# Altium schematic symbol library Schlib1.SchLib: 25 symbols
Pins are listed as number, name and electrical type; pins without a type are passive.

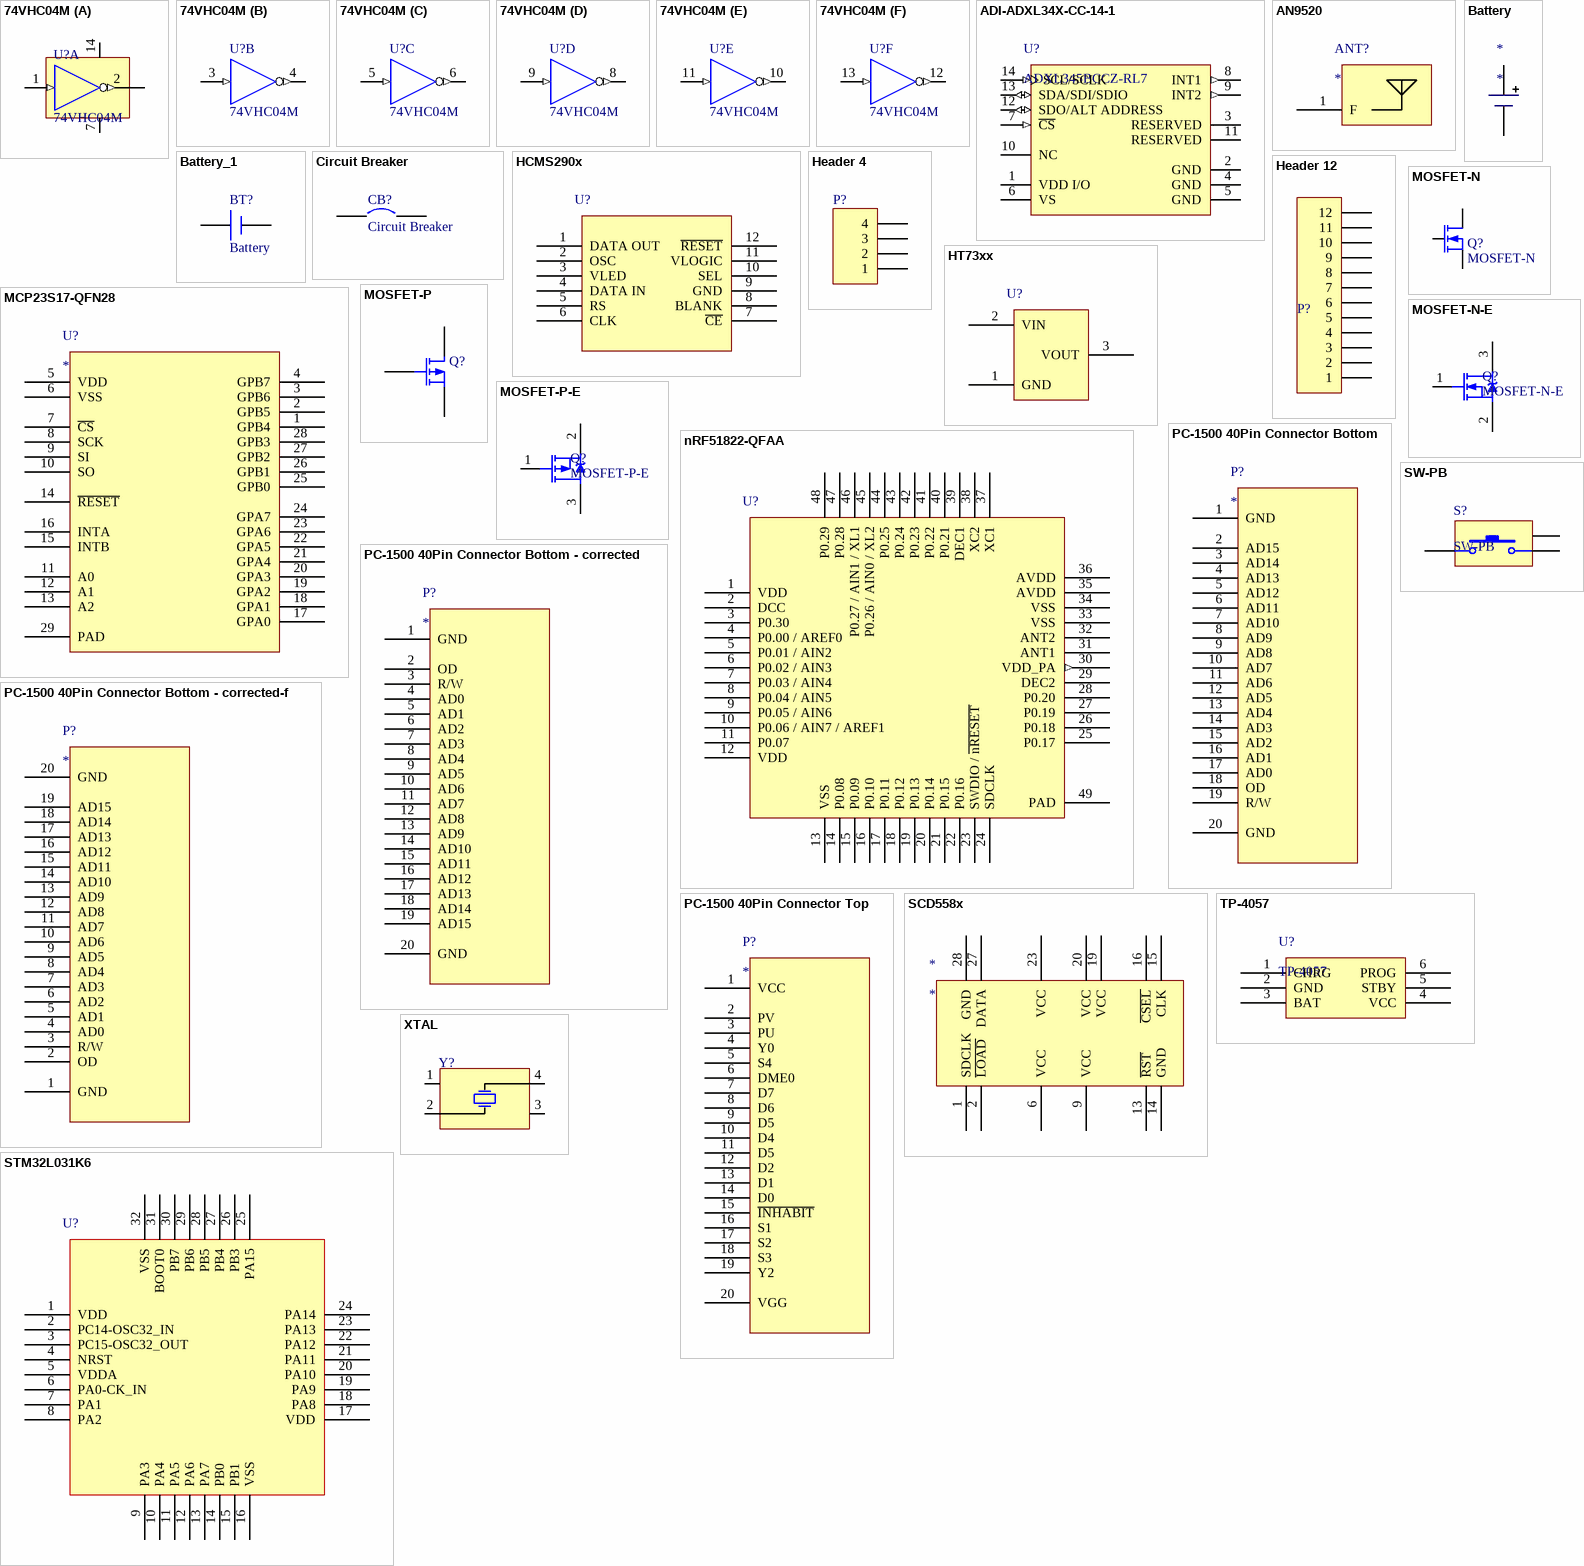
[diagram p0: symbols 74VHC04M to XTAL]

## 74VHC04M
designator U?
非门; IC_Technology: S; Published: 17-Jul-2002; LatestRevisionDate: 13-Apr-2006; LatestRevisionNote: IPC-7351 Footprint Added.; DatasheetVersion: Mar-1998; PackageVersion: 2000; PackageReference: M14A; Publisher: Altium Limited; PackageDescription: 14-Pin Small Outline Integrated Circuit 1.27 mm Pitch; Code_IPC: SOIC127P600-14; ComponentLink1Description: Manufacturer Link; ComponentLink1URL: http://www.fairchildsemi.com/
footprint SOP-14N (SOP, 14-Leads,)
part A pins: 1 A (in), 2 Y (out), 7 GND (power), 14 VCC (power)
part B pins: 3 A (in), 4 Y (out)
part C pins: 5 A (in), 6 Y (out)
part D pins: 8 Y (out), 9 A (in)
part E pins: 10 Y (out), 11 A (in)
part F pins: 12 Y (out), 13 A (in)

## ADI-ADXL34X-CC-14-1
designator U?, comment ADXL345BCCZ-RL7
3-Axis, +/-2 g / +/-4 g / +/-8 g / +/-16 g Digital Accelerometer with Digital Output, 1.6 KHz BW, Industrial, 14-pin LGA, Reel
footprint LGA80P300X500-14N (LGA, 14-Leads, Body 5,0x3,0mm (max), Pitch 1,01mm, Pitch1 0,80mm, IPC Medium Density)
pins: 1 VDD I/O (power) "Digital Interface Supply Voltage.", 2 GND (power) "This pin must be connected to ground.", 3 RESERVED "Reserved. This pin must be connected to VS or left open.", 4 GND (power) "This pin must be connected to ground.", 5 GND (power) "This pin must be connected to ground.", 6 VS (power) "Supply Voltage.", 7 ~{CS} (in) "Chip Select.", 8 INT1 (out) "Interrupt 1 Output.", 9 INT2 (out) "Interrupt 2 Output.", 10 NC "Not Internally Connected.", 11 RESERVED "Reserved. This pin must be connected to ground or left open.", 12 SDO/ALT ADDRESS (io) "Serial Data Output (SPI 4-Wire)/Alternate I2C Address Select (I2C).", 13 SDA/SDI/SDIO (io) "Serial Data (I2C)/Serial Data Input (SPI 4-Wire)/Serial Data Input and Output (SPI 3-Wire).", 14 SCL/SCLK (in) "Serial Communications Clock. SCL is the clock for I2C, and SCLK is the clock for SPI."

## AN9520
designator ANT?
AN9520 Multilayer Chip Antenna
footprint AN9520
pins: 1 F "Thermal pad"

## Battery
designator *
footprint HDR2X1_A (Connector; Header; 2 Position)
pins: 1 POS, 2 NEG

## Battery_1
designator BT?, comment Battery
备份电池; Published: 24-Mar-1999; LatestRevisionDate: 17-Jul-2002; LatestRevisionNote: Re-released for DXP Platform.; PackageReference: BAT-2; Publisher: Altium Limited
footprint CR1220 (钮扣电池)
footprint HDR2X1_A (Connector; Header; 2 Position)
pins: 1 +, 2 -

## Circuit Breaker
designator CB?
Published: 24-Mar-1999; LatestRevisionDate: 17-Jul-2002; LatestRevisionNote: Re-released for DXP Platform.; PackageReference: SPST-2; Publisher: Altium Limited; PackageDescription: Switch; 2 Leads
footprint SB-0805 (Configurable Solder Bridge)
pins: 1, 2

## HCMS290x
designator U?
HCMS LED display module
footprint HCMS-290x
pins: 1 DATA OUT, 2 OSC, 3 VLED, 4 DATA IN, 5 RS, 6 CLK, 7 ~{CE}, 8 BLANK, 9 GND, 10 SEL, 11 VLOGIC, 12 ~{RESET}

## Header 4
designator P?  (value not drawn)
接插件; LatestRevisionDate: 17-Jul-2002; LatestRevisionNote: Re-released for DXP Platform.; Publisher: Altium Limited
footprint HDR4X1_A (Connector; Header; 4 Position)
footprint HDR4X1_B1 (Connector; Header; 4 Position)
footprint HDR4X1_B2 (Connector; Header; 4 Position)
footprint HDR4X1_F
footprint HDR4X1_C (3.81MM接插件)
footprint HDR4X1_1.27mm
pins: 1, 2, 3, 4

## Header 12
designator P?  (value not drawn)
接插件; LatestRevisionDate: 17-Jul-2002; LatestRevisionNote: Re-released for DXP Platform.; Publisher: Altium Limited
footprint HDR12X1_1.27mm
pins: 1, 2, 3, 4, 5, 6, 7, 8, 9, 10, 11, 12

## HT73xx
designator U?  (value not drawn)
Output Voltage: *
pins: 1 GND "Thermal pad", 2 VIN "Thermal pad", 3 VOUT "Thermal pad"

## MCP23S17-QFN28
designator U?
16-Bit I/O Expander with Serial Interface
footprint QFN65P600X600X100_HS-29N (QFN, 28-Leads, Body 6.00x6.00mm, Pitch 0.65mm, Thermal Pad 3.93x3.93mm, IPC Medium Density)
pins: 1 GPB4, 2 GPB5, 3 GPB6, 4 GPB7, 5 VDD, 6 VSS, 7 ~{CS}, 8 SCK, 9 SI, 10 SO, 11 A0, 12 A1, 13 A2, 14 ~{RESET}, 15 INTB, 16 INTA, 17 GPA0, 18 GPA1, 19 GPA2, 20 GPA3, 21 GPA4, 22 GPA5, 23 GPA6, 24 GPA7, 25 GPB0, 26 GPB1, 27 GPB2, 28 GPB3, 29 PAD

## MOSFET-N
designator Q?
N-Channel MOSFET; PackageDocument: 1995/1996; Published: 8-Jun-2000; LatestRevisionDate: 17-Jul-2002; LatestRevisionNote: Re-released for DXP Platform.; PackageReference: E3; Publisher: Altium Limited
footprint TO-220AB (TO, Thru-Hole, Vertical, Heatsink Mounted; 3 In-Line Leads; Pitch 2.54 mm)
pins: D, G, S

## MOSFET-N-E
designator Q?
N-Channel Enhanced MOSFET; PackageDocument: 1995/1996; Published: 8-Jun-2000; LatestRevisionDate: 17-Jul-2002; LatestRevisionNote: Re-released for DXP Platform.; PackageReference: E3; Publisher: Altium Limited
footprint SOT-23
pins: 1 G, 2 S, 3 D

## MOSFET-P
designator Q?  (value not drawn)
P-Channel MOSFET; PackageDocument: 1995/1996; Published: 8-Jun-2000; LatestRevisionDate: 17-Jul-2002; LatestRevisionNote: Re-released for DXP Platform.; PackageReference: E3; Publisher: Altium Limited
footprint TO-220AB (TO, Thru-Hole, Vertical, Heatsink Mounted; 3 In-Line Leads; Pitch 2.54 mm)
pins: D, G, S

## MOSFET-P-E
designator Q?
P-Channel Enhanced MOSFET; PackageDocument: 1995/1996; Published: 8-Jun-2000; LatestRevisionDate: 17-Jul-2002; LatestRevisionNote: Re-released for DXP Platform.; PackageReference: E3; Publisher: Altium Limited
footprint SOT-23
pins: 1 G, 2 S, 3 D

## nRF51822-QFAA
designator U?, comment nRF51822  (value not drawn)
footprint QFN40P600X600X90_HS-49N (QFN, 48-Leads, Body 6.00x6.00mm, Pitch 0.40mm, Thermal Pad 4.60x4.60mm, IPC Medium Density)
pins: 1 VDD (power) "Power supply", 2 DCC (power) "DC/DC output voltage to external LC filter", 3 P0.30 "GPIO", 4 P0.00 / AREF0 "GPIO / ADC Reference voltage", 5 P0.01 / AIN2 "GPIO / ADC Input 2", 6 P0.02 / AIN3 "GPIO / ADC Input 3", 7 P0.03 / AIN4 "GPIO / ADC Input 4", 8 P0.04 / AIN5 "GPIO / ADC Input 5", 9 P0.05 / AIN6 "GPIO / ADC Input 6", 10 P0.06 / AIN7 / AREF1 "GPIO / ADC Input 7 / ADC Reference voltage", 11 P0.07 "GPIO", 12 VDD (power) "Power supply", 13 VSS (power) "Ground", 14 P0.08 "GPIO", 15 P0.09 "GPIO", 16 P0.10 "GPIO", 17 P0.11 "GPIO", 18 P0.12 "GPIO", 19 P0.13 "GPIO", 20 P0.14 "GPIO", 21 P0.15 "GPIO", 22 P0.16 "GPIO", 23 SWDIO / ~{nRESET} "HW debug and flash programming IO / System reset", 24 SDCLK "HW debug and flash programming IO", 25 P0.17 "GPIO", 26 P0.18 "GPIO", 27 P0.19 "GPIO", 28 P0.20 "GPIO", 29 DEC2 (power) "Power supply decoupling", 30 VDD_PA (out) "Power supply output (+1.6 V) for on-chip RF power amp", 31 ANT1 "Differential antenna connection (TX and RX)", 32 ANT2 "Differential antenna connection (TX and RX)", 33 VSS (power) "Ground", 34 VSS (power) "Ground", 35 AVDD (power) "Analog power supply", 36 AVDD (power) "Analog power supply", 37 XC1 "Connection for 16/32 MHz crystal or external 16 MHz  clock reference", 38 XC2 "Connection for 16/32 MHz crystal", 39 DEC1 (power) "Power supply decoupling", 40 P0.21 "GPIO", 41 P0.22 "GPIO", 42 P0.23 "GPIO", 43 P0.24 "GPIO", 44 P0.25 "GPIO", 45 P0.26 / AIN0 / XL2 "GPIO / ADC Input 0 / Connection for 32.768 kHz crystal", 46 P0.27 / AIN1 / XL1 "GPIO / ADC Input 1 / Connection for 32.768 kHz crystal or external 32.768 kHz clock reference", 47 P0.28 "GPIO", 48 P0.29 "GPIO", 49 PAD "Thermal pad"

## PC-1500 40Pin Connector Bottom
designator P?
footprint 40P_CONN_TOP
pins: 1 GND, 2 AD15, 3 AD14, 4 AD13, 5 AD12, 6 AD11, 7 AD10, 8 AD9, 9 AD8, 10 AD7, 11 AD6, 12 AD5, 13 AD4, 14 AD3, 15 AD2, 16 AD1, 17 AD0, 18 OD, 19 R/W, 20 GND

## PC-1500 40Pin Connector Bottom - corrected
designator P?
footprint 40P_CONN_TOP
pins: 1 GND, 2 OD, 3 R/W, 4 AD0, 5 AD1, 6 AD2, 7 AD3, 8 AD4, 9 AD5, 10 AD6, 11 AD7, 12 AD8, 13 AD9, 14 AD10, 15 AD11, 16 AD12, 17 AD13, 18 AD14, 19 AD15, 20 GND

## PC-1500 40Pin Connector Bottom - corrected-f
designator P?
footprint 40P_CONN_TOP
pins: 1 GND, 2 OD, 3 R/W, 4 AD0, 5 AD1, 6 AD2, 7 AD3, 8 AD4, 9 AD5, 10 AD6, 11 AD7, 12 AD8, 13 AD9, 14 AD10, 15 AD11, 16 AD12, 17 AD13, 18 AD14, 19 AD15, 20 GND

## PC-1500 40Pin Connector Top
designator P?
footprint 40P_CONN_TOP
pins: 1 VCC, 2 PV, 3 PU, 4 Y0, 5 S4, 6 DME0, 7 D7, 8 D6, 9 D5, 10 D4, 11 D5, 12 D2, 13 D1, 14 D0, 15 ~{INHABIT}, 16 S1, 17 S2, 18 S3, 19 Y2, 20 VGG

## SCD558x
designator *
footprint SCD558x
footprint SCD558x-Reduced
pins: 1 SDCLK, 2 ~{LOAD}, 6 VCC, 9 VCC, 13 ~{RST}, 14 GND, 15 CLK, 16 ~{CSEL}, 19 VCC, 20 VCC, 23 VCC, 27 DATA, 28 GND

## STM32L031K6
designator U?  (value not drawn)
footprint TQFP80P900X900X160-32N (TQFP, 32-Leads, Body 7.00x7.00mm, Pitch 0.80mm, IPC Medium Density)
pins: 1 VDD, 2 PC14-OSC32_IN, 3 PC15-OSC32_OUT, 4 NRST, 5 VDDA, 6 PA0-CK_IN, 7 PA1, 8 PA2, 9 PA3, 10 PA4, 11 PA5, 12 PA6, 13 PA7, 14 PB0, 15 PB1, 16 VSS, 17 VDD, 18 PA8, 19 PA9, 20 PA10, 21 PA11, 22 PA12, 23 PA13, 24 PA14, 25 PA15, 26 PB3, 27 PB4, 28 PB5, 29 PB6, 30 PB7, 31 BOOT0, 32 VSS

## SW-PB
designator S?
微动开关; Published: 24-Mar-1999; LatestRevisionDate: 17-Jul-2002; LatestRevisionNote: Re-released for DXP Platform.; PackageReference: SPST-2; Publisher: Altium Limited
footprint BTN_2_4_35 (TS-018A 2*4*3.5 Key)
pins: 1, 2, 3

## TP-4057
designator U?
500mA Linear Lithium Battery Charger
footprint SOT23-6 (Max4173)
pins: 1 CHRG, 2 GND, 3 BAT, 4 VCC, 5 STBY, 6 PROG

## XTAL
designator Y?  (value not drawn)
2520XTAL; Published: 8-Jun-2000; LatestRevisionDate: 17-Jul-2002; LatestRevisionNote: Re-released for DXP Platform.; PackageReference: R38; Publisher: Altium Limited
footprint DFN172P250X80-4N (DFN, 4-Leads, Body 2.00x2.50mm, Pitch 1.72mm, IPC Medium Density)
pins: 1 AD16, 2 AD17, 3 AD18, 4 AD19